# Altium integrated library ST Power Mgt Switching Regulator.IntLib: 17 symbols
Pins are listed as number, name and electrical type; pins without a type are passive.

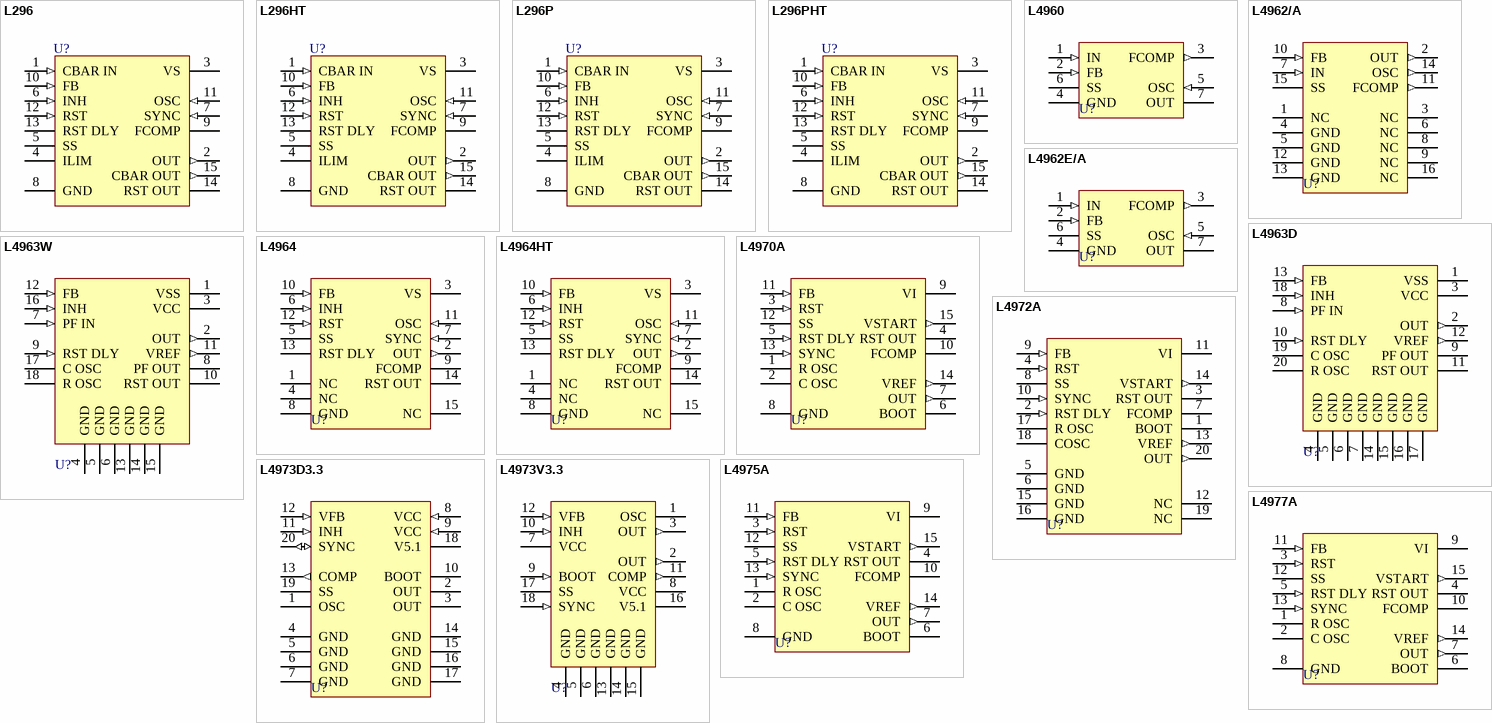
[diagram p0: symbols L296 to L4977A]

## L296
designator U?
High-Current Switching Regulator; Note: Specifications for the long lead horizontal Multiwatt package provided; Published: 24-Aug-2001; LatestRevisionDate: 17-Jul-2002; LatestRevisionNote: Re-released for DXP Platform.; DatasheetVersion: Apr-1993; PackageReference: MULTIWATT15VA; Publisher: Altium Limited; PackageDescription: TO, Thru-Hole, Vertical, Heatsink Mounted; 15 Bent Staggered Leads; Pitch 1.27 mm; ComponentLink1Description: Manufacturer Link; ComponentLink1URL: http://www.st.com/; ComponentLink2Description: Datasheet; ComponentLink2URL: http://www.st.com/stonline/products/literature/ds/1333/l296.pdf
footprint MULTIWATT15VA (TO, Thru-Hole, Vertical, Heatsink Mounted; 15 Bent Staggered Leads; Pitch 1.27 mm)
pins: 1 CBAR IN (in), 2 OUT (out), 3 VS (power), 4 ILIM, 5 SS, 6 INH (in), 7 SYNC (in), 8 GND (power), 9 FCOMP, 10 FB (in), 11 OSC (in), 12 RST (in), 13 RST DLY, 14 RST OUT (oc), 15 CBAR OUT (out)

## L296HT
designator U?
High-Current Switching Regulator; Note: Specifications for the long lead horizontal Multiwatt package provided; Published: 24-Aug-2001; LatestRevisionDate: 17-Jul-2002; LatestRevisionNote: Re-released for DXP Platform.; DatasheetVersion: Apr-1993; PackageVersion: Apr-1998; PackageReference: MULTIWATT15H; Publisher: Altium Limited; PackageDescription: TO, Thru-Hole, Horizontal, Heatsink Mounted; 15 Bent Staggered Leads; Pitch 1.27 mm; ComponentLink1Description: Manufacturer Link; ComponentLink1URL: http://www.st.com/; ComponentLink2Description: Datasheet; ComponentLink2URL: http://www.st.com/stonline/products/literature/ds/1333/l296.pdf
footprint Multiwatt15H (TO, Thru-Hole, Horizontal, Heatsink Mounted; 15 Bent Staggered Leads; Pitch 1.27 mm)
pins: 1 CBAR IN (in), 2 OUT (out), 3 VS (power), 4 ILIM, 5 SS, 6 INH (in), 7 SYNC (in), 8 GND (power), 9 FCOMP, 10 FB (in), 11 OSC (in), 12 RST (in), 13 RST DLY, 14 RST OUT (oc), 15 CBAR OUT (out)

## L296P
designator U?
High-Current Switching Regulator; Note: Specifications for the long lead horizontal Multiwatt package provided; Published: 24-Aug-2001; LatestRevisionDate: 17-Jul-2002; LatestRevisionNote: Re-released for DXP Platform.; DatasheetVersion: Apr-1993; PackageReference: MULTIWATT15VA; Publisher: Altium Limited; PackageDescription: TO, Thru-Hole, Vertical, Heatsink Mounted; 15 Bent Staggered Leads; Pitch 1.27 mm; ComponentLink1Description: Manufacturer Link; ComponentLink1URL: http://www.st.com/; ComponentLink2Description: Datasheet; ComponentLink2URL: http://www.st.com/stonline/products/literature/ds/1333/l296.pdf
footprint MULTIWATT15VA (TO, Thru-Hole, Vertical, Heatsink Mounted; 15 Bent Staggered Leads; Pitch 1.27 mm)
pins: 1 CBAR IN (in), 2 OUT (out), 3 VS (power), 4 ILIM, 5 SS, 6 INH (in), 7 SYNC (in), 8 GND (power), 9 FCOMP, 10 FB (in), 11 OSC (in), 12 RST (in), 13 RST DLY, 14 RST OUT (oc), 15 CBAR OUT (out)

## L296PHT
designator U?
High-Current Switching Regulator; Note: Specifications for the long lead horizontal Multiwatt package provided; Published: 24-Aug-2001; LatestRevisionDate: 17-Jul-2002; LatestRevisionNote: Re-released for DXP Platform.; DatasheetVersion: Apr-1993; PackageVersion: Apr-1998; PackageReference: MULTIWATT15H; Publisher: Altium Limited; PackageDescription: TO, Thru-Hole, Horizontal, Heatsink Mounted; 15 Bent Staggered Leads; Pitch 1.27 mm; ComponentLink1Description: Manufacturer Link; ComponentLink1URL: http://www.st.com/; ComponentLink2Description: Datasheet; ComponentLink2URL: http://www.st.com/stonline/products/literature/ds/1333/l296.pdf
footprint Multiwatt15H (TO, Thru-Hole, Horizontal, Heatsink Mounted; 15 Bent Staggered Leads; Pitch 1.27 mm)
pins: 1 CBAR IN (in), 2 OUT (out), 3 VS (power), 4 ILIM, 5 SS, 6 INH (in), 7 SYNC (in), 8 GND (power), 9 FCOMP, 10 FB (in), 11 OSC (in), 12 RST (in), 13 RST DLY, 14 RST OUT (oc), 15 CBAR OUT (out)

## L4960
designator U?
2.5A Power Switching Regulator; Published: 24-Aug-2001; LatestRevisionDate: 17-Jul-2002; LatestRevisionNote: Re-released for DXP Platform.; DatasheetVersion: Apr-1995; PackageVersion: Jan-1995; PackageReference: HEPTAWATT7; Publisher: Altium Limited; PackageDescription: TO, Thru-Hole, Vertical, Heatsink Mounted; 7 Bent Staggered Leads; Pitch 1.27 mm; ComponentLink1Description: Manufacturer Link; ComponentLink1URL: http://www.st.com/; ComponentLink2Description: Datasheet; ComponentLink2URL: http://www.st.com/stonline/products/literature/ds/1356/l4960.pdf
footprint HEPTAWATT7 (TO, Thru-Hole, Vertical, Heatsink Mounted; 7 Bent Staggered Leads; Pitch 1.27 mm)
pins: 1 IN (in), 2 FB (in), 3 FCOMP (out), 4 GND (power), 5 OSC (in), 6 SS, 7 OUT (power)

## L4962/A
designator U?
1.5A Power Switching Regulator; Published: 24-Aug-2001; LatestRevisionDate: 06-Jun-2005; LatestRevisionNote: Stylized 3D Model Added.; DatasheetVersion: Mar-1996; PackageVersion: Apr-1996; PackageReference: DIP16; Publisher: Altium Limited; PackageDescription: DIP; 16 Leads; Row Spacing 7.62 mm; Pitch 2.54 mm; ComponentLink1Description: Manufacturer Link; ComponentLink1URL: http://www.st.com/; ComponentLink2Description: Datasheet; ComponentLink2URL: http://www.st.com/stonline/products/literature/ds/1357/l4962.pdf
footprint DIP16 (DIP; 16 Leads; Row Spacing 7.62 mm; Pitch 2.54 mm)
3D model DIP16 (DIP; 16 Leads; Row Spacing 7.62 mm; Pitch 2.54 mm)
pins: 1 NC, 2 OUT (out), 3 NC, 4 GND (power), 5 GND (power), 6 NC, 7 IN (in), 8 NC, 9 NC, 10 FB (in), 11 FCOMP (out), 12 GND (power), 13 GND (power), 14 OSC (out), 15 SS, 16 NC

## L4962E/A
designator U?
1.5A Power Switching Regulator; Published: 24-Aug-2001; LatestRevisionDate: 17-Jul-2002; LatestRevisionNote: Re-released for DXP Platform.; DatasheetVersion: Mar-1996; PackageVersion: Jan-1995; PackageReference: HEPTAWATT7; Publisher: Altium Limited; PackageDescription: TO, Thru-Hole, Vertical, Heatsink Mounted; 7 Bent Staggered Leads; Pitch 1.27 mm; ComponentLink1Description: Manufacturer Link; ComponentLink1URL: http://www.st.com/; ComponentLink2Description: Datasheet; ComponentLink2URL: http://www.st.com/stonline/products/literature/ds/1357/l4962.pdf
footprint HEPTAWATT7 (TO, Thru-Hole, Vertical, Heatsink Mounted; 7 Bent Staggered Leads; Pitch 1.27 mm)
pins: 1 IN (in), 2 FB (in), 3 FCOMP (out), 4 GND (power), 5 OSC (in), 6 SS, 7 OUT (power)

## L4963D
designator U?
1.5A Switching Regulator; Published: 24-Aug-2001; LatestRevisionDate: 13-Apr-2006; LatestRevisionNote: IPC-7351 Footprint Added.; DatasheetVersion: Oct-1991; PackageVersion: Jul-2001; PackageReference: SO20; Publisher: Altium Limited; PackageDescription: 20-Pin Plastic Small Outline Integrated Circuit 1.27 mm Pitch; Code_JEDEC: MS-013-AC; Code_IPC: SOIC127P1030-20; ComponentLink1Description: Manufacturer Link; ComponentLink1URL: http://www.st.com/; ComponentLink2Description: Datasheet; ComponentLink2URL: http://www.st.com/stonline/products/literature/ds/1358/l4963.pdf
footprint SO20_N (SOIC, 20-Leads, Body 12.8x7.5mm, Pitch 1.27mm, IPC Medium Density)
footprint SO20_L (SOIC, 20-Leads, Body 12.8x7.5mm, Pitch 1.27mm, IPC High Density)
footprint SO20_M (SOIC, 20-Leads, Body 12.8x7.5mm, Pitch 1.27mm, IPC Low Density)
3D model SO20 (20-Pin Plastic Small Outline Integrated Circuit 1.27 mm Pitch)
pins: 1 VSS (power), 2 OUT (out), 3 VCC (power), 4 GND (power), 5 GND (power), 6 GND (power), 7 GND (power), 8 PF IN (in), 9 PF OUT (oc), 10 RST DLY (in), 11 RST OUT (oc), 12 VREF (out), 13 FB (in), 14 GND (power), 15 GND (power), 16 GND (power), 17 GND (power), 18 INH (in), 19 C OSC, 20 R OSC

## L4963W
designator U?
1.5A Switching Regulator; Published: 24-Aug-2001; LatestRevisionDate: 06-Jun-2005; LatestRevisionNote: Stylized 3D Model Added.; DatasheetVersion: Oct-1991; PackageReference: PDIP18; Publisher: Altium Limited; PackageDescription: DIP; 18 Leads; Row Spacing 7.62 mm; Pitch 2.54 mm; ComponentLink1Description: Manufacturer Link; ComponentLink1URL: http://www.st.com/; ComponentLink2Description: Datasheet; ComponentLink2URL: http://www.st.com/stonline/products/literature/ds/1358/l4963.pdf
footprint PDIP18 (DIP; 18 Leads; Row Spacing 7.62 mm; Pitch 2.54 mm)
3D model PDIP18 (DIP; 18 Leads; Row Spacing 7.62 mm; Pitch 2.54 mm)
pins: 1 VSS (power), 2 OUT (out), 3 VCC (power), 4 GND (power), 5 GND (power), 6 GND (power), 7 PF IN (in), 8 PF OUT (oc), 9 RST DLY (in), 10 RST OUT (oc), 11 VREF (out), 12 FB (in), 13 GND (power), 14 GND (power), 15 GND (power), 16 INH (in), 17 C OSC, 18 R OSC

## L4964
designator U?
High-Current Switching Regulator; Published: 24-Aug-2001; LatestRevisionDate: 17-Jul-2002; LatestRevisionNote: Re-released for DXP Platform.; DatasheetVersion: Apr-1993; PackageReference: MULTIWATT15VA; Publisher: Altium Limited; PackageDescription: TO, Thru-Hole, Vertical, Heatsink Mounted; 15 Bent Staggered Leads; Pitch 1.27 mm; ComponentLink1Description: Manufacturer Link; ComponentLink1URL: http://www.st.com/
footprint MULTIWATT15VA (TO, Thru-Hole, Vertical, Heatsink Mounted; 15 Bent Staggered Leads; Pitch 1.27 mm)
pins: 1 NC, 2 OUT (out), 3 VS (power), 4 NC, 5 SS, 6 INH (in), 7 SYNC (in), 8 GND (power), 9 FCOMP, 10 FB (in), 11 OSC (in), 12 RST (in), 13 RST DLY, 14 RST OUT (oc), 15 NC

## L4964HT
designator U?
High-Current Switching Regulator; Published: 24-Aug-2001; LatestRevisionDate: 17-Jul-2002; LatestRevisionNote: Re-released for DXP Platform.; DatasheetVersion: Apr-1993; PackageVersion: Apr-1998; PackageReference: MULTIWATT15H; Publisher: Altium Limited; PackageDescription: TO, Thru-Hole, Horizontal, Heatsink Mounted; 15 Bent Staggered Leads; Pitch 1.27 mm; ComponentLink1Description: Manufacturer Link; ComponentLink1URL: http://www.st.com/
footprint Multiwatt15H (TO, Thru-Hole, Horizontal, Heatsink Mounted; 15 Bent Staggered Leads; Pitch 1.27 mm)
pins: 1 NC, 2 OUT (out), 3 VS (power), 4 NC, 5 SS, 6 INH (in), 7 SYNC (in), 8 GND (power), 9 FCOMP, 10 FB (in), 11 OSC (in), 12 RST (in), 13 RST DLY, 14 RST OUT (oc), 15 NC

## L4970A
designator U?
10A Switching Regulator; Published: 24-Aug-2001; LatestRevisionDate: 17-Jul-2002; LatestRevisionNote: Re-released for DXP Platform.; DatasheetVersion: Nov-1991; PackageReference: MULTIWATT15VA; Publisher: Altium Limited; PackageDescription: TO, Thru-Hole, Vertical, Heatsink Mounted; 15 Bent Staggered Leads; Pitch 1.27 mm; ComponentLink1Description: Manufacturer Link; ComponentLink1URL: http://www.st.com/; ComponentLink2Description: Datasheet; ComponentLink2URL: http://www.st.com/stonline/products/literature/ds/1361/l4970a.pdf
footprint MULTIWATT15VA (TO, Thru-Hole, Vertical, Heatsink Mounted; 15 Bent Staggered Leads; Pitch 1.27 mm)
pins: 1 R OSC, 2 C OSC, 3 RST (in), 4 RST OUT (oc), 5 RST DLY (in), 6 BOOT, 7 OUT (out), 8 GND (power), 9 VI (power), 10 FCOMP, 11 FB (in), 12 SS, 13 SYNC (in), 14 VREF (out), 15 VSTART (out)

## L4972A
designator U?
2A Switching Regulator; Published: 24-Aug-2001; LatestRevisionDate: 06-Jun-2005; LatestRevisionNote: Stylized 3D Model Added.; DatasheetVersion: Jan-1995; PackageVersion: Mar-1995; PackageReference: PwrDIP20; Publisher: Altium Limited; PackageDescription: DIP; 20 Leads; Row Spacing 7.62 mm; Pitch 2.54 mm; ComponentLink1Description: Manufacturer Link; ComponentLink1URL: http://www.st.com/; ComponentLink2Description: Datasheet; ComponentLink2URL: http://www.st.com/stonline/products/literature/ds/1362/l4972.pdf
footprint PwrDIP20 (DIP; 20 Leads; Row Spacing 7.62 mm; Pitch 2.54 mm)
3D model PwrDIP20 (DIP; 20 Leads; Row Spacing 7.62 mm; Pitch 2.54 mm)
pins: 1 BOOT, 2 RST DLY (in), 3 RST OUT (oc), 4 RST (in), 5 GND (power), 6 GND (power), 7 FCOMP, 8 SS, 9 FB (in), 10 SYNC (in), 11 VI (power), 12 NC, 13 VREF (out), 14 VSTART (out), 15 GND (power), 16 GND (power), 17 R OSC, 18 COSC, 19 NC, 20 OUT (out)

## L4973D3.3
designator U?
3.5A Step Down Switching Regulator; Published: 24-Aug-2001; LatestRevisionDate: 13-Apr-2006; LatestRevisionNote: IPC-7351 Footprint Added.; DatasheetVersion: Jul-1999; PackageVersion: Jul-2001; PackageReference: SO20; Publisher: Altium Limited; PackageDescription: 20-Pin Plastic Small Outline Integrated Circuit 1.27 mm Pitch; Code_JEDEC: MS-013-AC; Code_IPC: SOIC127P1030-20; ComponentLink1Description: Manufacturer Link; ComponentLink1URL: http://www.st.com/; ComponentLink2Description: Datasheet; ComponentLink2URL: http://www.st.com/stonline/products/literature/ds/1546/l4973.pdf
footprint SO20_N (SOIC, 20-Leads, Body 12.8x7.5mm, Pitch 1.27mm, IPC Medium Density)
footprint SO20_L (SOIC, 20-Leads, Body 12.8x7.5mm, Pitch 1.27mm, IPC High Density)
footprint SO20_M (SOIC, 20-Leads, Body 12.8x7.5mm, Pitch 1.27mm, IPC Low Density)
3D model SO20 (20-Pin Plastic Small Outline Integrated Circuit 1.27 mm Pitch)
pins: 1 OSC, 2 OUT (power), 3 OUT (power), 4 GND (power), 5 GND (power), 6 GND (power), 7 GND (power), 8 VCC (in), 9 VCC (in), 10 BOOT, 11 INH (in), 12 VFB (in), 13 COMP (out), 14 GND (power), 15 GND (power), 16 GND (power), 17 GND (power), 18 V5.1 (power), 19 SS, 20 SYNC (io)

## L4973V3.3
designator U?
3.5A Step Down Switching Regulator; Published: 24-Aug-2001; LatestRevisionDate: 06-Jun-2005; LatestRevisionNote: Stylized 3D Model Added.; DatasheetVersion: Jul-1999; PackageReference: PDIP18; Publisher: Altium Limited; PackageDescription: DIP; 18 Leads; Row Spacing 7.62 mm; Pitch 2.54 mm; ComponentLink1Description: Manufacturer Link; ComponentLink1URL: http://www.st.com/; ComponentLink2Description: Datasheet; ComponentLink2URL: http://www.st.com/stonline/products/literature/ds/1546/l4973.pdf
footprint PDIP18 (DIP; 18 Leads; Row Spacing 7.62 mm; Pitch 2.54 mm)
3D model PDIP18 (DIP; 18 Leads; Row Spacing 7.62 mm; Pitch 2.54 mm)
pins: 1 OSC, 2 OUT (out), 3 OUT (out), 4 GND (power), 5 GND (power), 6 GND (power), 7 VCC (power), 8 VCC (power), 9 BOOT (in), 10 INH (in), 11 COMP (out), 12 VFB (in), 13 GND (power), 14 GND (power), 15 GND (power), 16 V5.1 (power), 17 SS, 18 SYNC (in)

## L4975A
designator U?
5A Switching Regulator; Published: 24-Aug-2001; LatestRevisionDate: 17-Jul-2002; LatestRevisionNote: Re-released for DXP Platform.; DatasheetVersion: Nov-1991; PackageReference: MULTIWATT15VA; Publisher: Altium Limited; PackageDescription: TO, Thru-Hole, Vertical, Heatsink Mounted; 15 Bent Staggered Leads; Pitch 1.27 mm; ComponentLink1Description: Manufacturer Link; ComponentLink1URL: http://www.st.com/; ComponentLink2Description: Datasheet; ComponentLink2URL: http://www.st.com/stonline/products/literature/ds/1364/l4975a.pdf
footprint MULTIWATT15VA (TO, Thru-Hole, Vertical, Heatsink Mounted; 15 Bent Staggered Leads; Pitch 1.27 mm)
pins: 1 R OSC, 2 C OSC, 3 RST (in), 4 RST OUT (oc), 5 RST DLY (in), 6 BOOT, 7 OUT (out), 8 GND (power), 9 VI (power), 10 FCOMP, 11 FB (in), 12 SS, 13 SYNC (in), 14 VREF (out), 15 VSTART (out)

## L4977A
designator U?
7A Switching Regulator; Published: 24-Aug-2001; LatestRevisionDate: 17-Jul-2002; LatestRevisionNote: Re-released for DXP Platform.; DatasheetVersion: Nov-1991; PackageReference: MULTIWATT15VA; Publisher: Altium Limited; PackageDescription: TO, Thru-Hole, Vertical, Heatsink Mounted; 15 Bent Staggered Leads; Pitch 1.27 mm; ComponentLink1Description: Manufacturer Link; ComponentLink1URL: http://www.st.com/; ComponentLink2Description: Datasheet; ComponentLink2URL: http://www.st.com/stonline/products/literature/ds/1365/l4977a.pdf
footprint MULTIWATT15VA (TO, Thru-Hole, Vertical, Heatsink Mounted; 15 Bent Staggered Leads; Pitch 1.27 mm)
pins: 1 R OSC, 2 C OSC, 3 RST (in), 4 RST OUT (oc), 5 RST DLY (in), 6 BOOT, 7 OUT (out), 8 GND (power), 9 VI (power), 10 FCOMP, 11 FB (in), 12 SS, 13 SYNC (in), 14 VREF (out), 15 VSTART (out)